# Altium integrated library Linear Technology PMIC-Switching Reg LTC1174-LTC3901.IntLib: 2647 symbols (part 161 of 310)
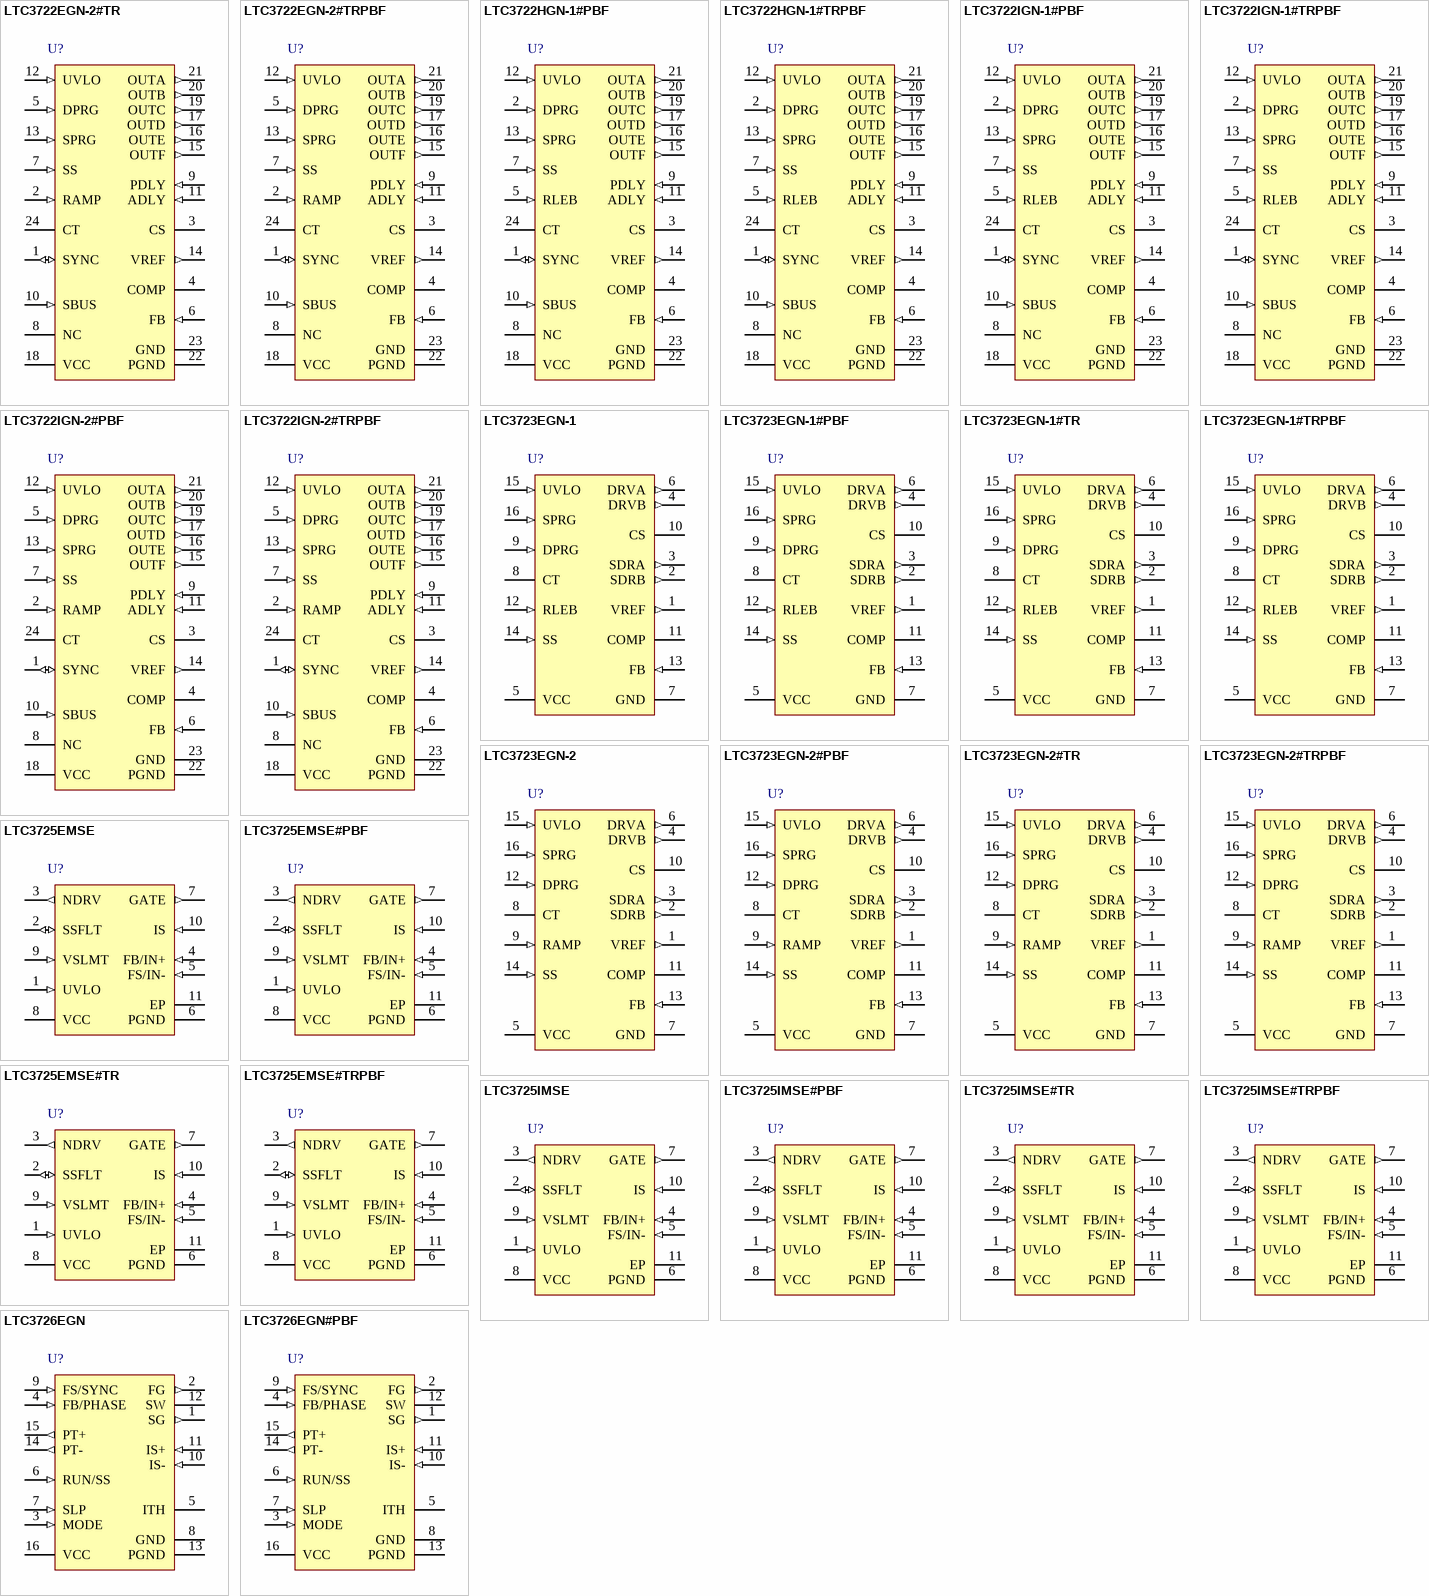
[diagram p208: symbols LTC3722EGN-2#TR to LTC3726EGN#PBF]

## LTC3722IGN-2#TRPBF
designator U?
Synchronous Dual Mode Phase Modulated Full Bridge Controller, Current Mode, 24-pin SOP (GN-24), -40 to 85 degC, Pb-Free, Tape and Reel; Manufacturer: Linear Technology; PartNumber: LTC3722IGN-2#TRPBF; Number of Outputs: 1; PackageReference: GN24; PackageDescription: 24-Pin Plastic SSOP , Body 8.5 x 3.9 mm, Pitch 0.635 mm; Supplier 1: Digi-Key; Supplier Part Number 1: LTC3722IGN-2#TRPBF-ND; RoHS: TRUE
footprint LT-GN-24_N (SOP, 24-Leads, Body 8.7x4mm, Pitch 0.635mm, IPC Medium Density)
footprint LT-GN-24_L (SOP, 24-Leads, Body 8.7x4mm, Pitch 0.635mm, IPC High Density)
footprint LT-GN-24_M (SOP, 24-Leads, Body 8.7x4mm, Pitch 0.635mm, IPC Low Density)
pins: 1 SYNC (io) "Synchronization Input/Output for the Oscillator. The input threshold for SYNC is approximately 1.9V, making it compatible with both CMOS and TTL logic. Terminate SYNC with a 5.1k resistor to GND.", 2 RAMP (in) "Input to Phase Modulator Comparator for LTC3722-2 only. The voltage on RAMP is internally level shifted by 650mV.", 3 CS "Input to Phase Modulator for the LTC3722-1. Input to pulse-by-pulse and overload current limit comparators, output of slope compensation circuitry. The pulse by pulse comparator has a nominal 300mV threshold, while the (See Datasheet)", 4 COMP "Error Amplifier Output, Inverting Input to Phase Modulator.", 5 DPRG (in) "Programming Input for Default Zero Voltage Transition (ZVS) Delay. Connect a resistor from DPRG to VREF to set the maximum turn on delay for outputs A, B, C, D. The nominal voltage on DPRG is 2V.", 6 FB (in) "Error Amplifier Inverting Input. This is the voltage feedback input for the LTC3722. The nominal regulation voltage at FB is 1.204V.", 7 SS (in) "Soft-Start/Restart Delay Circuitry Timing Capacitor. A capacitor from SS to GND provides a controlled ramp of the current command (LTC3722-1), or duty cycle (LTC3722-2). During overload conditions SS is discharged to ground (See Datasheet)", 8 NC "No Connection. Tie this pin to GND.", 9 PDLY (in) "Passive Leg Delay Circuit Input. PDLY is connected through a voltage divider to the left leg of the bridge in adaptive ZVS mode. In fixed ZVS mode, a voltage between 0V and 2.5V on PDLY, programs a fixed ZVS delay time for (See Datasheet)", 10 SBUS (in) "Line Voltage Sense Input. SBUS is connected to the main DC voltage feed by a resistive voltage divider when using adaptive ZVS control. The voltage divider is designed to produce 1.5V on SBUS at nominal VIN. If SBUS is tied (See Datasheet)", 11 ADLY (in) "Active Leg Delay Circuit Input. ADLY is connected through a voltage divider to the right leg of the bridge in adaptive ZVS mode. In fixed ZVS mode, a voltage between 0V and 2.5V on ADLY, programs a fixed ZVS delay time for (See Datasheet)", 12 UVLO (in) "Input to Program System Turn-On and Turn-Off Voltages. The nominal threshold of the UVLO comparator is 5V. UVLO is connected to the main DC system feed through a resistor divider. When the UVLO threshold is exceeded, the (See Datasheet)", 13 SPRG (in) "A resistor is connected between SPRG and GND to set the turn-off delay for the synchronous rectifier driver outputs (OUTE and OUTF). The nominal voltage on SPRG is 2V.", 14 VREF (out) "Output of the 5V Reference. VREF is capable of supplying up to 18mA to external circuitry. VREF should be decoupled to GND with a 1uF ceramic capacitor.", 15 OUTF (out) "50mA Driver for Synchronous Rectifier Associated with OUTB and OUTC.", 16 OUTE (out) "50mA Driver for Synchronous Rectifier Associated with OUTA and OUTD.", 17 OUTD (out) "50mA Driver for Low Side of the Full Bridge Active Leg.", 18 VCC (power) "Supply Voltage Input to the LTC3722-1/LTC3722-2 and 10.25V Shunt Regulator. The chip is enabled after VCC has risen high enough to allow the VCC shunt regulator to conduct current and the UVLO comparator threshold is (See Datasheet)", 19 OUTC (out) "50mA Driver for High Side of the Full Bridge Active Leg.", 20 OUTB (out) "50mA Driver for Low Side of the Full Bridge Passive Leg.", 21 OUTA (out) "50mA Driver for High Side of the Full Bridge Passive Leg.", 22 PGND (power) "Power Ground for the LTC3722. The output drivers of the LTC3722 are referenced to PGND. Connect the ceramic VCC bypass capacitor directly to PGND.", 23 GND (power) "All circuits other than the output drivers in the LTC3722 are referenced to GND. Use of a ground plane is recommended but not absolutely necessary.", 24 CT "Timing Capacitor for the Oscillator. Use a +/-5% or better low ESR ceramic capacitor for best results."

## LTC3723EGN-1
designator U?
Synchronous Push-Pull PWM Controller, Current Mode, 16-pin SOP (GN-16), -40 to 85 degC; Manufacturer: Linear Technology; PartNumber: LTC3723EGN-1; Number of Outputs: 1; PackageReference: GN-16; PackageDescription: 16-Pin Plastic SSOP, Body 4.9 x 3.9 mm, Pitch 0.635 mm; Supplier 1: Digi-Key; Supplier Part Number 1: LTC3723EGN-1-ND; RoHS: FALSE
footprint LT-GN-16_N (SOP, 16-Leads, Body 5x4mm, Pitch 0.635mm, IPC Medium Density)
footprint LT-GN-16_L (SOP, 16-Leads, Body 5x4mm, Pitch 0.635mm, IPC High Density)
footprint LT-GN-16_M (SOP, 16-Leads, Body 5x4mm, Pitch 0.635mm, IPC Low Density)
pins: 1 VREF (out) "Output of the 5.0V Reference. VREF is capable of supplying up to 18mA to external circuitry. VREF should be decoupled to GND with a 0.47uF ceramic capacitor.", 2 SDRB (out) "50mA Driver for Synchronous Rectifier associated with DRVB.", 3 SDRA (out) "50mA Driver for Synchronous Rectifier associated with DRVA.", 4 DRVB (out) "High Speed 1.5A Sink, 1A Source Totem Pole MOSFET Driver. Connect to gate of external push-pull MOSFET with as short a PCB trace as practical to preserve drive signal integrity. A low value resistor connected between DRVA (See Datasheet)", 5 VCC (power) "Supply Voltage Input to the LTC3723-1/LTC3723-2 and 10.25V Shunt Regulator. The chip is enabled after VCC has risen high enough to allow the VCC shunt regulator to conduct current and the UVLO comparator threshold is (See Datasheet)", 6 DRVA (out) "High Speed 1.5A Sink, 1A Source Totem Pole MOSFET Driver. Connect to gate of external push-pull MOSFET with as short a PCB trace as practical to preserve drive signal integrity. A low value resistor connected between DRVA (See Datasheet)", 7 GND (power) "All circuits in the LTC3723 are referenced to GND. Use of a ground plane is highly recom- mended. VIN and VREF bypass capacitors must be terminated with a star configuration as close to GND as practical for best performance.", 8 CT "Timing Capacitor for the Oscillator. Use a +/-5% or better low ESR ceramic capacitor for best results. CT ramp amplitude is 2.35V peak-to-peak (typical).", 9 DPRG (in) "Programming Input for Push-Pull Dead-Time. Connect a resistor between DPRG and VREF to program the dead-time. The nominal voltage on DPRG is 2V.", 10 CS "Input to Pulse-by-Pulse and Overload Current Limit Comparators, Output of Slope Compensation Circuitry. The pulse-by-pulse comparator has a nominal 300mV threshold, while the overload comparator has a nominal 600mV threshold.(See Datasheet)", 11 COMP "Error Amplifier Output, Inverting Input to Phase Modulator.", 12 RLEB (in) "Timing Resistor for Leading Edge Blanking. Use a 10k to 100k resistor connected between RLEB and GND to program from 40ns to 310ns of leading edge blanking of the current sense signal on CS for the LTC3723-1. A +/-1% (See Datasheet)", 13 FB (in) "Error Amplifier Inverting Input. This is the voltage feedback input for the LTC3723. The nominal regulation voltage at FB is 1.2V.", 14 SS (in) "Soft-Start/Restart Delay Circuitry Timing Capacitor. A capacitor from SS to GND provides a controlled ramp of the current command (LTC3723-1) or duty cycle (LTC3723-2). During overload conditions, SS is discharged to ground (See Datasheet)", 15 UVLO (in) "Input to Program System Turn-On and Turn-Off Voltages. The nominal threshold of the UVLO comparator is 5.0V. UVLO is connected to the main DC system feed through a resistor divider. When the UVLO threshold is exceeded, the (See Datasheet)", 16 SPRG (in) "A resistor is connected between SPRG and GND to set the turn off delay for the synchronous rectifier driver outputs. The nominal voltage on SPRG is 2V."

## LTC3723EGN-1#PBF
designator U?
Synchronous Push-Pull PWM Controller, Current Mode, 16-pin SOP (GN-16), -40 to 85 degC, Pb-Free; Manufacturer: Linear Technology; PartNumber: LTC3723EGN-1#PBF; Number of Outputs: 1; PackageReference: GN-16; PackageDescription: 16-Pin Plastic SSOP, Body 4.9 x 3.9 mm, Pitch 0.635 mm; Supplier 1: Digi-Key; Supplier Part Number 1: LTC3723EGN-1#PBF-ND; RoHS: TRUE
footprint LT-GN-16_N (SOP, 16-Leads, Body 5x4mm, Pitch 0.635mm, IPC Medium Density)
footprint LT-GN-16_L (SOP, 16-Leads, Body 5x4mm, Pitch 0.635mm, IPC High Density)
footprint LT-GN-16_M (SOP, 16-Leads, Body 5x4mm, Pitch 0.635mm, IPC Low Density)
pins: 1 VREF (out) "Output of the 5.0V Reference. VREF is capable of supplying up to 18mA to external circuitry. VREF should be decoupled to GND with a 0.47uF ceramic capacitor.", 2 SDRB (out) "50mA Driver for Synchronous Rectifier associated with DRVB.", 3 SDRA (out) "50mA Driver for Synchronous Rectifier associated with DRVA.", 4 DRVB (out) "High Speed 1.5A Sink, 1A Source Totem Pole MOSFET Driver. Connect to gate of external push-pull MOSFET with as short a PCB trace as practical to preserve drive signal integrity. A low value resistor connected between DRVA (See Datasheet)", 5 VCC (power) "Supply Voltage Input to the LTC3723-1/LTC3723-2 and 10.25V Shunt Regulator. The chip is enabled after VCC has risen high enough to allow the VCC shunt regulator to conduct current and the UVLO comparator threshold is (See Datasheet)", 6 DRVA (out) "High Speed 1.5A Sink, 1A Source Totem Pole MOSFET Driver. Connect to gate of external push-pull MOSFET with as short a PCB trace as practical to preserve drive signal integrity. A low value resistor connected between DRVA (See Datasheet)", 7 GND (power) "All circuits in the LTC3723 are referenced to GND. Use of a ground plane is highly recom- mended. VIN and VREF bypass capacitors must be terminated with a star configuration as close to GND as practical for best performance.", 8 CT "Timing Capacitor for the Oscillator. Use a +/-5% or better low ESR ceramic capacitor for best results. CT ramp amplitude is 2.35V peak-to-peak (typical).", 9 DPRG (in) "Programming Input for Push-Pull Dead-Time. Connect a resistor between DPRG and VREF to program the dead-time. The nominal voltage on DPRG is 2V.", 10 CS "Input to Pulse-by-Pulse and Overload Current Limit Comparators, Output of Slope Compensation Circuitry. The pulse-by-pulse comparator has a nominal 300mV threshold, while the overload comparator has a nominal 600mV threshold.(See Datasheet)", 11 COMP "Error Amplifier Output, Inverting Input to Phase Modulator.", 12 RLEB (in) "Timing Resistor for Leading Edge Blanking. Use a 10k to 100k resistor connected between RLEB and GND to program from 40ns to 310ns of leading edge blanking of the current sense signal on CS for the LTC3723-1. A +/-1% (See Datasheet)", 13 FB (in) "Error Amplifier Inverting Input. This is the voltage feedback input for the LTC3723. The nominal regulation voltage at FB is 1.2V.", 14 SS (in) "Soft-Start/Restart Delay Circuitry Timing Capacitor. A capacitor from SS to GND provides a controlled ramp of the current command (LTC3723-1) or duty cycle (LTC3723-2). During overload conditions, SS is discharged to ground (See Datasheet)", 15 UVLO (in) "Input to Program System Turn-On and Turn-Off Voltages. The nominal threshold of the UVLO comparator is 5.0V. UVLO is connected to the main DC system feed through a resistor divider. When the UVLO threshold is exceeded, the (See Datasheet)", 16 SPRG (in) "A resistor is connected between SPRG and GND to set the turn off delay for the synchronous rectifier driver outputs. The nominal voltage on SPRG is 2V."

## LTC3723EGN-1#TR
designator U?
Synchronous Push-Pull PWM Controller, Current Mode, 16-pin SOP (GN-16), -40 to 85 degC, Tape and Reel; Manufacturer: Linear Technology; PartNumber: LTC3723EGN-1#TR; Number of Outputs: 1; PackageReference: GN-16; PackageDescription: 16-Pin Plastic SSOP, Body 4.9 x 3.9 mm, Pitch 0.635 mm; Supplier 1: Digi-Key; Supplier Part Number 1: LTC3723EGN-1#TR-ND; RoHS: FALSE
footprint LT-GN-16_N (SOP, 16-Leads, Body 5x4mm, Pitch 0.635mm, IPC Medium Density)
footprint LT-GN-16_L (SOP, 16-Leads, Body 5x4mm, Pitch 0.635mm, IPC High Density)
footprint LT-GN-16_M (SOP, 16-Leads, Body 5x4mm, Pitch 0.635mm, IPC Low Density)
pins: 1 VREF (out) "Output of the 5.0V Reference. VREF is capable of supplying up to 18mA to external circuitry. VREF should be decoupled to GND with a 0.47uF ceramic capacitor.", 2 SDRB (out) "50mA Driver for Synchronous Rectifier associated with DRVB.", 3 SDRA (out) "50mA Driver for Synchronous Rectifier associated with DRVA.", 4 DRVB (out) "High Speed 1.5A Sink, 1A Source Totem Pole MOSFET Driver. Connect to gate of external push-pull MOSFET with as short a PCB trace as practical to preserve drive signal integrity. A low value resistor connected between DRVA (See Datasheet)", 5 VCC (power) "Supply Voltage Input to the LTC3723-1/LTC3723-2 and 10.25V Shunt Regulator. The chip is enabled after VCC has risen high enough to allow the VCC shunt regulator to conduct current and the UVLO comparator threshold is (See Datasheet)", 6 DRVA (out) "High Speed 1.5A Sink, 1A Source Totem Pole MOSFET Driver. Connect to gate of external push-pull MOSFET with as short a PCB trace as practical to preserve drive signal integrity. A low value resistor connected between DRVA (See Datasheet)", 7 GND (power) "All circuits in the LTC3723 are referenced to GND. Use of a ground plane is highly recom- mended. VIN and VREF bypass capacitors must be terminated with a star configuration as close to GND as practical for best performance.", 8 CT "Timing Capacitor for the Oscillator. Use a +/-5% or better low ESR ceramic capacitor for best results. CT ramp amplitude is 2.35V peak-to-peak (typical).", 9 DPRG (in) "Programming Input for Push-Pull Dead-Time. Connect a resistor between DPRG and VREF to program the dead-time. The nominal voltage on DPRG is 2V.", 10 CS "Input to Pulse-by-Pulse and Overload Current Limit Comparators, Output of Slope Compensation Circuitry. The pulse-by-pulse comparator has a nominal 300mV threshold, while the overload comparator has a nominal 600mV threshold.(See Datasheet)", 11 COMP "Error Amplifier Output, Inverting Input to Phase Modulator.", 12 RLEB (in) "Timing Resistor for Leading Edge Blanking. Use a 10k to 100k resistor connected between RLEB and GND to program from 40ns to 310ns of leading edge blanking of the current sense signal on CS for the LTC3723-1. A +/-1% (See Datasheet)", 13 FB (in) "Error Amplifier Inverting Input. This is the voltage feedback input for the LTC3723. The nominal regulation voltage at FB is 1.2V.", 14 SS (in) "Soft-Start/Restart Delay Circuitry Timing Capacitor. A capacitor from SS to GND provides a controlled ramp of the current command (LTC3723-1) or duty cycle (LTC3723-2). During overload conditions, SS is discharged to ground (See Datasheet)", 15 UVLO (in) "Input to Program System Turn-On and Turn-Off Voltages. The nominal threshold of the UVLO comparator is 5.0V. UVLO is connected to the main DC system feed through a resistor divider. When the UVLO threshold is exceeded, the (See Datasheet)", 16 SPRG (in) "A resistor is connected between SPRG and GND to set the turn off delay for the synchronous rectifier driver outputs. The nominal voltage on SPRG is 2V."

## LTC3723EGN-1#TRPBF
designator U?
Synchronous Push-Pull PWM Controller, Current Mode, 16-pin SOP (GN-16), -40 to 85 degC, Pb-Free, Tape and Reel; Manufacturer: Linear Technology; PartNumber: LTC3723EGN-1#TRPBF; Number of Outputs: 1; PackageReference: GN-16; PackageDescription: 16-Pin Plastic SSOP, Body 4.9 x 3.9 mm, Pitch 0.635 mm; Supplier 1: Digi-Key; Supplier Part Number 1: LTC3723EGN-1#TRPBF-ND; RoHS: TRUE
footprint LT-GN-16_N (SOP, 16-Leads, Body 5x4mm, Pitch 0.635mm, IPC Medium Density)
footprint LT-GN-16_L (SOP, 16-Leads, Body 5x4mm, Pitch 0.635mm, IPC High Density)
footprint LT-GN-16_M (SOP, 16-Leads, Body 5x4mm, Pitch 0.635mm, IPC Low Density)
pins: 1 VREF (out) "Output of the 5.0V Reference. VREF is capable of supplying up to 18mA to external circuitry. VREF should be decoupled to GND with a 0.47uF ceramic capacitor.", 2 SDRB (out) "50mA Driver for Synchronous Rectifier associated with DRVB.", 3 SDRA (out) "50mA Driver for Synchronous Rectifier associated with DRVA.", 4 DRVB (out) "High Speed 1.5A Sink, 1A Source Totem Pole MOSFET Driver. Connect to gate of external push-pull MOSFET with as short a PCB trace as practical to preserve drive signal integrity. A low value resistor connected between DRVA (See Datasheet)", 5 VCC (power) "Supply Voltage Input to the LTC3723-1/LTC3723-2 and 10.25V Shunt Regulator. The chip is enabled after VCC has risen high enough to allow the VCC shunt regulator to conduct current and the UVLO comparator threshold is (See Datasheet)", 6 DRVA (out) "High Speed 1.5A Sink, 1A Source Totem Pole MOSFET Driver. Connect to gate of external push-pull MOSFET with as short a PCB trace as practical to preserve drive signal integrity. A low value resistor connected between DRVA (See Datasheet)", 7 GND (power) "All circuits in the LTC3723 are referenced to GND. Use of a ground plane is highly recom- mended. VIN and VREF bypass capacitors must be terminated with a star configuration as close to GND as practical for best performance.", 8 CT "Timing Capacitor for the Oscillator. Use a +/-5% or better low ESR ceramic capacitor for best results. CT ramp amplitude is 2.35V peak-to-peak (typical).", 9 DPRG (in) "Programming Input for Push-Pull Dead-Time. Connect a resistor between DPRG and VREF to program the dead-time. The nominal voltage on DPRG is 2V.", 10 CS "Input to Pulse-by-Pulse and Overload Current Limit Comparators, Output of Slope Compensation Circuitry. The pulse-by-pulse comparator has a nominal 300mV threshold, while the overload comparator has a nominal 600mV threshold.(See Datasheet)", 11 COMP "Error Amplifier Output, Inverting Input to Phase Modulator.", 12 RLEB (in) "Timing Resistor for Leading Edge Blanking. Use a 10k to 100k resistor connected between RLEB and GND to program from 40ns to 310ns of leading edge blanking of the current sense signal on CS for the LTC3723-1. A +/-1% (See Datasheet)", 13 FB (in) "Error Amplifier Inverting Input. This is the voltage feedback input for the LTC3723. The nominal regulation voltage at FB is 1.2V.", 14 SS (in) "Soft-Start/Restart Delay Circuitry Timing Capacitor. A capacitor from SS to GND provides a controlled ramp of the current command (LTC3723-1) or duty cycle (LTC3723-2). During overload conditions, SS is discharged to ground (See Datasheet)", 15 UVLO (in) "Input to Program System Turn-On and Turn-Off Voltages. The nominal threshold of the UVLO comparator is 5.0V. UVLO is connected to the main DC system feed through a resistor divider. When the UVLO threshold is exceeded, the (See Datasheet)", 16 SPRG (in) "A resistor is connected between SPRG and GND to set the turn off delay for the synchronous rectifier driver outputs. The nominal voltage on SPRG is 2V."

## LTC3723EGN-2
designator U?
Synchronous Push-Pull PWM Controller, Voltage Mode, 16-pin SOP (GN-16), -40 to 85 degC; Manufacturer: Linear Technology; PartNumber: LTC3723EGN-2; Number of Outputs: 1; PackageReference: GN-16; PackageDescription: 16-Pin Plastic SSOP, Body 4.9 x 3.9 mm, Pitch 0.635 mm; Supplier 1: Digi-Key; Supplier Part Number 1: LTC3723EGN-2-ND; RoHS: FALSE
footprint LT-GN-16_N (SOP, 16-Leads, Body 5x4mm, Pitch 0.635mm, IPC Medium Density)
footprint LT-GN-16_L (SOP, 16-Leads, Body 5x4mm, Pitch 0.635mm, IPC High Density)
footprint LT-GN-16_M (SOP, 16-Leads, Body 5x4mm, Pitch 0.635mm, IPC Low Density)
pins: 1 VREF (out) "Output of the 5.0V Reference. VREF is capable of supplying up to 18mA to external circuitry. VREF should be decoupled to GND with a 0.47uF ceramic capacitor.", 2 SDRB (out) "50mA Driver for Synchronous Rectifier associated with DRVB.", 3 SDRA (out) "50mA Driver for Synchronous Rectifier associated with DRVA.", 4 DRVB (out) "High Speed 1.5A Sink, 1A Source Totem Pole MOSFET Driver. Connect to gate of external push-pull MOSFET with as short a PCB trace as practical to preserve drive signal integrity. A low value resistor connected between DRVA (See Datasheet)", 5 VCC (power) "Supply Voltage Input to the LTC3723-1/LTC3723-2 and 10.25V Shunt Regulator. The chip is enabled after VCC has risen high enough to allow the VCC shunt regulator to conduct current and the UVLO comparator threshold is (See Datasheet)", 6 DRVA (out) "High Speed 1.5A Sink, 1A Source Totem Pole MOSFET Driver. Connect to gate of external push-pull MOSFET with as short a PCB trace as practical to preserve drive signal integrity. A low value resistor connected between DRVA (See Datasheet)", 7 GND (power) "All circuits in the LTC3723 are referenced to GND. Use of a ground plane is highly recom- mended. VIN and VREF bypass capacitors must be terminated with a star configuration as close to GND as practical for best performance.", 8 CT "Timing Capacitor for the Oscillator. Use a +/-5% or better low ESR ceramic capacitor for best results. CT ramp amplitude is 2.35V peak-to-peak (typical).", 9 RAMP (in) "Input to PWM Comparator for LTC3723-2 Only (Voltage Mode Controller). The voltage on RAMP is internally level shifted by 650mV.", 10 CS "Input to Pulse-by-Pulse and Overload Current Limit Comparators, Output of Slope Compensation Circuitry. The pulse-by-pulse comparator has a nominal 300mV threshold, while the overload comparator has a nominal 600mV threshold.(See Datasheet)", 11 COMP "Error Amplifier Output, Inverting Input to Phase Modulator.", 12 DPRG (in) "Programming Input for Push-Pull Dead-Time. Connect a resistor between DPRG and VREF to program the dead-time. The nominal voltage on DPRG is 2V.", 13 FB (in) "Error Amplifier Inverting Input. This is the voltage feedback input for the LTC3723. The nominal regulation voltage at FB is 1.2V.", 14 SS (in) "Soft-Start/Restart Delay Circuitry Timing Capacitor. A capacitor from SS to GND provides a controlled ramp of the current command (LTC3723-1) or duty cycle (LTC3723-2). During overload conditions, SS is discharged to ground (See Datasheet)", 15 UVLO (in) "Input to Program System Turn-On and Turn-Off Voltages. The nominal threshold of the UVLO comparator is 5.0V. UVLO is connected to the main DC system feed through a resistor divider. When the UVLO threshold is exceeded, the (See Datasheet)", 16 SPRG (in) "A resistor is connected between SPRG and GND to set the turn off delay for the synchronous rectifier driver outputs. The nominal voltage on SPRG is 2V."

## LTC3723EGN-2#PBF
designator U?
Synchronous Push-Pull PWM Controller, Voltage Mode, 16-pin SOP (GN-16), -40 to 85 degC, Pb-Free; Manufacturer: Linear Technology; PartNumber: LTC3723EGN-2#PBF; Number of Outputs: 1; PackageReference: GN-16; PackageDescription: 16-Pin Plastic SSOP, Body 4.9 x 3.9 mm, Pitch 0.635 mm; Supplier 1: Digi-Key; Supplier Part Number 1: LTC3723EGN-2#PBF-ND; RoHS: TRUE
footprint LT-GN-16_N (SOP, 16-Leads, Body 5x4mm, Pitch 0.635mm, IPC Medium Density)
footprint LT-GN-16_L (SOP, 16-Leads, Body 5x4mm, Pitch 0.635mm, IPC High Density)
footprint LT-GN-16_M (SOP, 16-Leads, Body 5x4mm, Pitch 0.635mm, IPC Low Density)
pins: 1 VREF (out) "Output of the 5.0V Reference. VREF is capable of supplying up to 18mA to external circuitry. VREF should be decoupled to GND with a 0.47uF ceramic capacitor.", 2 SDRB (out) "50mA Driver for Synchronous Rectifier associated with DRVB.", 3 SDRA (out) "50mA Driver for Synchronous Rectifier associated with DRVA.", 4 DRVB (out) "High Speed 1.5A Sink, 1A Source Totem Pole MOSFET Driver. Connect to gate of external push-pull MOSFET with as short a PCB trace as practical to preserve drive signal integrity. A low value resistor connected between DRVA (See Datasheet)", 5 VCC (power) "Supply Voltage Input to the LTC3723-1/LTC3723-2 and 10.25V Shunt Regulator. The chip is enabled after VCC has risen high enough to allow the VCC shunt regulator to conduct current and the UVLO comparator threshold is (See Datasheet)", 6 DRVA (out) "High Speed 1.5A Sink, 1A Source Totem Pole MOSFET Driver. Connect to gate of external push-pull MOSFET with as short a PCB trace as practical to preserve drive signal integrity. A low value resistor connected between DRVA (See Datasheet)", 7 GND (power) "All circuits in the LTC3723 are referenced to GND. Use of a ground plane is highly recom- mended. VIN and VREF bypass capacitors must be terminated with a star configuration as close to GND as practical for best performance.", 8 CT "Timing Capacitor for the Oscillator. Use a +/-5% or better low ESR ceramic capacitor for best results. CT ramp amplitude is 2.35V peak-to-peak (typical).", 9 RAMP (in) "Input to PWM Comparator for LTC3723-2 Only (Voltage Mode Controller). The voltage on RAMP is internally level shifted by 650mV.", 10 CS "Input to Pulse-by-Pulse and Overload Current Limit Comparators, Output of Slope Compensation Circuitry. The pulse-by-pulse comparator has a nominal 300mV threshold, while the overload comparator has a nominal 600mV threshold.(See Datasheet)", 11 COMP "Error Amplifier Output, Inverting Input to Phase Modulator.", 12 DPRG (in) "Programming Input for Push-Pull Dead-Time. Connect a resistor between DPRG and VREF to program the dead-time. The nominal voltage on DPRG is 2V.", 13 FB (in) "Error Amplifier Inverting Input. This is the voltage feedback input for the LTC3723. The nominal regulation voltage at FB is 1.2V.", 14 SS (in) "Soft-Start/Restart Delay Circuitry Timing Capacitor. A capacitor from SS to GND provides a controlled ramp of the current command (LTC3723-1) or duty cycle (LTC3723-2). During overload conditions, SS is discharged to ground (See Datasheet)", 15 UVLO (in) "Input to Program System Turn-On and Turn-Off Voltages. The nominal threshold of the UVLO comparator is 5.0V. UVLO is connected to the main DC system feed through a resistor divider. When the UVLO threshold is exceeded, the (See Datasheet)", 16 SPRG (in) "A resistor is connected between SPRG and GND to set the turn off delay for the synchronous rectifier driver outputs. The nominal voltage on SPRG is 2V."

## LTC3723EGN-2#TR
designator U?
Synchronous Push-Pull PWM Controller, Voltage Mode, 16-pin SOP (GN-16), -40 to 85 degC, Tape and Reel; Manufacturer: Linear Technology; PartNumber: LTC3723EGN-2#TR; Number of Outputs: 1; PackageReference: GN-16; PackageDescription: 16-Pin Plastic SSOP, Body 4.9 x 3.9 mm, Pitch 0.635 mm; Supplier 1: Digi-Key; Supplier Part Number 1: LTC3723EGN-2#TR-ND; RoHS: FALSE
footprint LT-GN-16_N (SOP, 16-Leads, Body 5x4mm, Pitch 0.635mm, IPC Medium Density)
footprint LT-GN-16_L (SOP, 16-Leads, Body 5x4mm, Pitch 0.635mm, IPC High Density)
footprint LT-GN-16_M (SOP, 16-Leads, Body 5x4mm, Pitch 0.635mm, IPC Low Density)
pins: 1 VREF (out) "Output of the 5.0V Reference. VREF is capable of supplying up to 18mA to external circuitry. VREF should be decoupled to GND with a 0.47uF ceramic capacitor.", 2 SDRB (out) "50mA Driver for Synchronous Rectifier associated with DRVB.", 3 SDRA (out) "50mA Driver for Synchronous Rectifier associated with DRVA.", 4 DRVB (out) "High Speed 1.5A Sink, 1A Source Totem Pole MOSFET Driver. Connect to gate of external push-pull MOSFET with as short a PCB trace as practical to preserve drive signal integrity. A low value resistor connected between DRVA (See Datasheet)", 5 VCC (power) "Supply Voltage Input to the LTC3723-1/LTC3723-2 and 10.25V Shunt Regulator. The chip is enabled after VCC has risen high enough to allow the VCC shunt regulator to conduct current and the UVLO comparator threshold is (See Datasheet)", 6 DRVA (out) "High Speed 1.5A Sink, 1A Source Totem Pole MOSFET Driver. Connect to gate of external push-pull MOSFET with as short a PCB trace as practical to preserve drive signal integrity. A low value resistor connected between DRVA (See Datasheet)", 7 GND (power) "All circuits in the LTC3723 are referenced to GND. Use of a ground plane is highly recom- mended. VIN and VREF bypass capacitors must be terminated with a star configuration as close to GND as practical for best performance.", 8 CT "Timing Capacitor for the Oscillator. Use a +/-5% or better low ESR ceramic capacitor for best results. CT ramp amplitude is 2.35V peak-to-peak (typical).", 9 RAMP (in) "Input to PWM Comparator for LTC3723-2 Only (Voltage Mode Controller). The voltage on RAMP is internally level shifted by 650mV.", 10 CS "Input to Pulse-by-Pulse and Overload Current Limit Comparators, Output of Slope Compensation Circuitry. The pulse-by-pulse comparator has a nominal 300mV threshold, while the overload comparator has a nominal 600mV threshold.(See Datasheet)", 11 COMP "Error Amplifier Output, Inverting Input to Phase Modulator.", 12 DPRG (in) "Programming Input for Push-Pull Dead-Time. Connect a resistor between DPRG and VREF to program the dead-time. The nominal voltage on DPRG is 2V.", 13 FB (in) "Error Amplifier Inverting Input. This is the voltage feedback input for the LTC3723. The nominal regulation voltage at FB is 1.2V.", 14 SS (in) "Soft-Start/Restart Delay Circuitry Timing Capacitor. A capacitor from SS to GND provides a controlled ramp of the current command (LTC3723-1) or duty cycle (LTC3723-2). During overload conditions, SS is discharged to ground (See Datasheet)", 15 UVLO (in) "Input to Program System Turn-On and Turn-Off Voltages. The nominal threshold of the UVLO comparator is 5.0V. UVLO is connected to the main DC system feed through a resistor divider. When the UVLO threshold is exceeded, the (See Datasheet)", 16 SPRG (in) "A resistor is connected between SPRG and GND to set the turn off delay for the synchronous rectifier driver outputs. The nominal voltage on SPRG is 2V."

## LTC3723EGN-2#TRPBF
designator U?
Synchronous Push-Pull PWM Controller, Voltage Mode, 16-pin SOP (GN-16), -40 to 85 degC, Pb-Free, Tape and Reel; Manufacturer: Linear Technology; PartNumber: LTC3723EGN-2#TRPBF; Number of Outputs: 1; PackageReference: GN-16; PackageDescription: 16-Pin Plastic SSOP, Body 4.9 x 3.9 mm, Pitch 0.635 mm; Supplier 1: Digi-Key; Supplier Part Number 1: LTC3723EGN-2#TRPBF-ND; RoHS: TRUE
footprint LT-GN-16_N (SOP, 16-Leads, Body 5x4mm, Pitch 0.635mm, IPC Medium Density)
footprint LT-GN-16_L (SOP, 16-Leads, Body 5x4mm, Pitch 0.635mm, IPC High Density)
footprint LT-GN-16_M (SOP, 16-Leads, Body 5x4mm, Pitch 0.635mm, IPC Low Density)
pins: 1 VREF (out) "Output of the 5.0V Reference. VREF is capable of supplying up to 18mA to external circuitry. VREF should be decoupled to GND with a 0.47uF ceramic capacitor.", 2 SDRB (out) "50mA Driver for Synchronous Rectifier associated with DRVB.", 3 SDRA (out) "50mA Driver for Synchronous Rectifier associated with DRVA.", 4 DRVB (out) "High Speed 1.5A Sink, 1A Source Totem Pole MOSFET Driver. Connect to gate of external push-pull MOSFET with as short a PCB trace as practical to preserve drive signal integrity. A low value resistor connected between DRVA (See Datasheet)", 5 VCC (power) "Supply Voltage Input to the LTC3723-1/LTC3723-2 and 10.25V Shunt Regulator. The chip is enabled after VCC has risen high enough to allow the VCC shunt regulator to conduct current and the UVLO comparator threshold is (See Datasheet)", 6 DRVA (out) "High Speed 1.5A Sink, 1A Source Totem Pole MOSFET Driver. Connect to gate of external push-pull MOSFET with as short a PCB trace as practical to preserve drive signal integrity. A low value resistor connected between DRVA (See Datasheet)", 7 GND (power) "All circuits in the LTC3723 are referenced to GND. Use of a ground plane is highly recom- mended. VIN and VREF bypass capacitors must be terminated with a star configuration as close to GND as practical for best performance.", 8 CT "Timing Capacitor for the Oscillator. Use a +/-5% or better low ESR ceramic capacitor for best results. CT ramp amplitude is 2.35V peak-to-peak (typical).", 9 RAMP (in) "Input to PWM Comparator for LTC3723-2 Only (Voltage Mode Controller). The voltage on RAMP is internally level shifted by 650mV.", 10 CS "Input to Pulse-by-Pulse and Overload Current Limit Comparators, Output of Slope Compensation Circuitry. The pulse-by-pulse comparator has a nominal 300mV threshold, while the overload comparator has a nominal 600mV threshold.(See Datasheet)", 11 COMP "Error Amplifier Output, Inverting Input to Phase Modulator.", 12 DPRG (in) "Programming Input for Push-Pull Dead-Time. Connect a resistor between DPRG and VREF to program the dead-time. The nominal voltage on DPRG is 2V.", 13 FB (in) "Error Amplifier Inverting Input. This is the voltage feedback input for the LTC3723. The nominal regulation voltage at FB is 1.2V.", 14 SS (in) "Soft-Start/Restart Delay Circuitry Timing Capacitor. A capacitor from SS to GND provides a controlled ramp of the current command (LTC3723-1) or duty cycle (LTC3723-2). During overload conditions, SS is discharged to ground (See Datasheet)", 15 UVLO (in) "Input to Program System Turn-On and Turn-Off Voltages. The nominal threshold of the UVLO comparator is 5.0V. UVLO is connected to the main DC system feed through a resistor divider. When the UVLO threshold is exceeded, the (See Datasheet)", 16 SPRG (in) "A resistor is connected between SPRG and GND to set the turn off delay for the synchronous rectifier driver outputs. The nominal voltage on SPRG is 2V."

## LTC3725EMSE
designator U?
Single-Switch Forward Controller and Gate Driver, 10-pin SOP (MSE-10-EDP), -40 to 85 degC; Manufacturer: Linear Technology; PartNumber: LTC3725EMSE; Number of Outputs: 1; PackageReference: MSE-10; PackageDescription: 10-Pin Plastic MSOP, Exposed Die Pad, Body 3 x 3 mm, Pitch 0.5 mm; RoHS: FALSE
footprint LT-MSE-10-EDP-2060x1830TP_N (SOP, 10-Leads, Body 3.1x3.1mm, Pitch 0.5mm, Thermal Pad 2.17x1.94mm, IPC Medium Density)
footprint LT-MSE-10-EDP-2060x1830TP_L (SOP, 10-Leads, Body 3.1x3.1mm, Pitch 0.5mm, Thermal Pad 2.17x1.94mm, IPC High Density)
footprint LT-MSE-10-EDP-2060x1830TP_M (SOP, 10-Leads, Body 3.1x3.1mm, Pitch 0.5mm, Thermal Pad 2.17x1.94mm, IPC Low Density)
pins: 1 UVLO (in) "Undervoltage Lockout. Connect to a resistive voltage divider to monitor input voltage VIN. Enables converter operation for VUVLO > 1.242V. Hysteresis is a fixed 16mV hysteresis voltage with a 4.9uA hysteresis current that (See Datasheet)", 2 SSFLT (io) "Combination Soft-Start and Fault Indicator. A capacitor to GND sets the duty cycle ramp-up rate during start-up. To indicate a fault, the SSFLT pin is momentarily pulled up to within 1.3V of VCC.", 3 NDRV (out) "Drive for the External NMOS Linear Regulator. Connect to the gate of the NMOS and connect a pull up resistor to the input voltage (VIN). Optionally, to create a trickle charger omit the NMOS device and connect NDRV to VCC.", 4 FB/IN+ (in) "This pin has several functions. One winding of a pulse transformer is connected to the FB/IN+ and FS/IN- pins. The other pulse transformer winding is connected to the LTC3706. The LTC3725 automatically detects when the (See Datasheet)", 5 FS/IN- (in) "This pin has several functions. Place a resistor from this pin to GND to set the oscillator frequency. For secondary-side control with the LTC3706, connect one winding of the pulse transformer for operation as described for (See Datasheet)", 6 PGND (power) "Supply Return for the Bottom Gate Driver and the On-Chip Bridge Rectifier.", 7 GATE (out) "Gate Drive. Connect to the gate of the external MOSFET.", 8 VCC (power) "Main VCC Power for All Driver and Control Circuitry.", 9 VSLMT (in) "Volt-Second Limit. Form an R-C integrator by connecting a resistor from VIN to VSLMT and a capacitor from VSLMT to ground. The gate drive is turned off when the voltage on the VSLMT pin exceeds 1.26V.", 10 IS (in) "Input to the Overcurrent Comparator. Connect to the positive terminal of a current-sense resistor in series with the source of the ground-referenced bottom MOSFET.", 11 EP (power) "Signal Ground."

## LTC3725EMSE#PBF
designator U?
Single-Switch Forward Controller and Gate Driver, 10-pin SOP (MSE-10-EDP), -40 to 85 degC, Pb-Free; Manufacturer: Linear Technology; PartNumber: LTC3725EMSE#PBF; Number of Outputs: 1; PackageReference: MSE-10; PackageDescription: 10-Pin Plastic MSOP, Exposed Die Pad, Body 3 x 3 mm, Pitch 0.5 mm; Supplier 1: Digi-Key; Supplier Part Number 1: LTC3725EMSE#PBF-ND; RoHS: TRUE
footprint LT-MSE-10-EDP-2060x1830TP_N (SOP, 10-Leads, Body 3.1x3.1mm, Pitch 0.5mm, Thermal Pad 2.17x1.94mm, IPC Medium Density)
footprint LT-MSE-10-EDP-2060x1830TP_L (SOP, 10-Leads, Body 3.1x3.1mm, Pitch 0.5mm, Thermal Pad 2.17x1.94mm, IPC High Density)
footprint LT-MSE-10-EDP-2060x1830TP_M (SOP, 10-Leads, Body 3.1x3.1mm, Pitch 0.5mm, Thermal Pad 2.17x1.94mm, IPC Low Density)
pins: 1 UVLO (in) "Undervoltage Lockout. Connect to a resistive voltage divider to monitor input voltage VIN. Enables converter operation for VUVLO > 1.242V. Hysteresis is a fixed 16mV hysteresis voltage with a 4.9uA hysteresis current that (See Datasheet)", 2 SSFLT (io) "Combination Soft-Start and Fault Indicator. A capacitor to GND sets the duty cycle ramp-up rate during start-up. To indicate a fault, the SSFLT pin is momentarily pulled up to within 1.3V of VCC.", 3 NDRV (out) "Drive for the External NMOS Linear Regulator. Connect to the gate of the NMOS and connect a pull up resistor to the input voltage (VIN). Optionally, to create a trickle charger omit the NMOS device and connect NDRV to VCC.", 4 FB/IN+ (in) "This pin has several functions. One winding of a pulse transformer is connected to the FB/IN+ and FS/IN- pins. The other pulse transformer winding is connected to the LTC3706. The LTC3725 automatically detects when the (See Datasheet)", 5 FS/IN- (in) "This pin has several functions. Place a resistor from this pin to GND to set the oscillator frequency. For secondary-side control with the LTC3706, connect one winding of the pulse transformer for operation as described for (See Datasheet)", 6 PGND (power) "Supply Return for the Bottom Gate Driver and the On-Chip Bridge Rectifier.", 7 GATE (out) "Gate Drive. Connect to the gate of the external MOSFET.", 8 VCC (power) "Main VCC Power for All Driver and Control Circuitry.", 9 VSLMT (in) "Volt-Second Limit. Form an R-C integrator by connecting a resistor from VIN to VSLMT and a capacitor from VSLMT to ground. The gate drive is turned off when the voltage on the VSLMT pin exceeds 1.26V.", 10 IS (in) "Input to the Overcurrent Comparator. Connect to the positive terminal of a current-sense resistor in series with the source of the ground-referenced bottom MOSFET.", 11 EP (power) "Signal Ground."

## LTC3725EMSE#TR
designator U?
Single-Switch Forward Controller and Gate Driver, 10-pin SOP (MSE-10-EDP), -40 to 85 degC, Tape and Reel; Manufacturer: Linear Technology; PartNumber: LTC3725EMSE#TR; Number of Outputs: 1; PackageReference: MSE-10; PackageDescription: 10-Pin Plastic MSOP, Exposed Die Pad, Body 3 x 3 mm, Pitch 0.5 mm; RoHS: FALSE
footprint LT-MSE-10-EDP-2060x1830TP_N (SOP, 10-Leads, Body 3.1x3.1mm, Pitch 0.5mm, Thermal Pad 2.17x1.94mm, IPC Medium Density)
footprint LT-MSE-10-EDP-2060x1830TP_L (SOP, 10-Leads, Body 3.1x3.1mm, Pitch 0.5mm, Thermal Pad 2.17x1.94mm, IPC High Density)
footprint LT-MSE-10-EDP-2060x1830TP_M (SOP, 10-Leads, Body 3.1x3.1mm, Pitch 0.5mm, Thermal Pad 2.17x1.94mm, IPC Low Density)
pins: 1 UVLO (in) "Undervoltage Lockout. Connect to a resistive voltage divider to monitor input voltage VIN. Enables converter operation for VUVLO > 1.242V. Hysteresis is a fixed 16mV hysteresis voltage with a 4.9uA hysteresis current that (See Datasheet)", 2 SSFLT (io) "Combination Soft-Start and Fault Indicator. A capacitor to GND sets the duty cycle ramp-up rate during start-up. To indicate a fault, the SSFLT pin is momentarily pulled up to within 1.3V of VCC.", 3 NDRV (out) "Drive for the External NMOS Linear Regulator. Connect to the gate of the NMOS and connect a pull up resistor to the input voltage (VIN). Optionally, to create a trickle charger omit the NMOS device and connect NDRV to VCC.", 4 FB/IN+ (in) "This pin has several functions. One winding of a pulse transformer is connected to the FB/IN+ and FS/IN- pins. The other pulse transformer winding is connected to the LTC3706. The LTC3725 automatically detects when the (See Datasheet)", 5 FS/IN- (in) "This pin has several functions. Place a resistor from this pin to GND to set the oscillator frequency. For secondary-side control with the LTC3706, connect one winding of the pulse transformer for operation as described for (See Datasheet)", 6 PGND (power) "Supply Return for the Bottom Gate Driver and the On-Chip Bridge Rectifier.", 7 GATE (out) "Gate Drive. Connect to the gate of the external MOSFET.", 8 VCC (power) "Main VCC Power for All Driver and Control Circuitry.", 9 VSLMT (in) "Volt-Second Limit. Form an R-C integrator by connecting a resistor from VIN to VSLMT and a capacitor from VSLMT to ground. The gate drive is turned off when the voltage on the VSLMT pin exceeds 1.26V.", 10 IS (in) "Input to the Overcurrent Comparator. Connect to the positive terminal of a current-sense resistor in series with the source of the ground-referenced bottom MOSFET.", 11 EP (power) "Signal Ground."

## LTC3725EMSE#TRPBF
designator U?
Single-Switch Forward Controller and Gate Driver, 10-pin SOP (MSE-10-EDP), -40 to 85 degC, Pb-Free, Tape and Reel; Manufacturer: Linear Technology; PartNumber: LTC3725EMSE#TRPBF; Number of Outputs: 1; PackageReference: MSE-10; PackageDescription: 10-Pin Plastic MSOP, Exposed Die Pad, Body 3 x 3 mm, Pitch 0.5 mm; Supplier 1: Digi-Key; Supplier Part Number 1: LTC3725EMSE#TRPBF-ND; RoHS: TRUE
footprint LT-MSE-10-EDP-2060x1830TP_N (SOP, 10-Leads, Body 3.1x3.1mm, Pitch 0.5mm, Thermal Pad 2.17x1.94mm, IPC Medium Density)
footprint LT-MSE-10-EDP-2060x1830TP_L (SOP, 10-Leads, Body 3.1x3.1mm, Pitch 0.5mm, Thermal Pad 2.17x1.94mm, IPC High Density)
footprint LT-MSE-10-EDP-2060x1830TP_M (SOP, 10-Leads, Body 3.1x3.1mm, Pitch 0.5mm, Thermal Pad 2.17x1.94mm, IPC Low Density)
pins: 1 UVLO (in) "Undervoltage Lockout. Connect to a resistive voltage divider to monitor input voltage VIN. Enables converter operation for VUVLO > 1.242V. Hysteresis is a fixed 16mV hysteresis voltage with a 4.9uA hysteresis current that (See Datasheet)", 2 SSFLT (io) "Combination Soft-Start and Fault Indicator. A capacitor to GND sets the duty cycle ramp-up rate during start-up. To indicate a fault, the SSFLT pin is momentarily pulled up to within 1.3V of VCC.", 3 NDRV (out) "Drive for the External NMOS Linear Regulator. Connect to the gate of the NMOS and connect a pull up resistor to the input voltage (VIN). Optionally, to create a trickle charger omit the NMOS device and connect NDRV to VCC.", 4 FB/IN+ (in) "This pin has several functions. One winding of a pulse transformer is connected to the FB/IN+ and FS/IN- pins. The other pulse transformer winding is connected to the LTC3706. The LTC3725 automatically detects when the (See Datasheet)", 5 FS/IN- (in) "This pin has several functions. Place a resistor from this pin to GND to set the oscillator frequency. For secondary-side control with the LTC3706, connect one winding of the pulse transformer for operation as described for (See Datasheet)", 6 PGND (power) "Supply Return for the Bottom Gate Driver and the On-Chip Bridge Rectifier.", 7 GATE (out) "Gate Drive. Connect to the gate of the external MOSFET.", 8 VCC (power) "Main VCC Power for All Driver and Control Circuitry.", 9 VSLMT (in) "Volt-Second Limit. Form an R-C integrator by connecting a resistor from VIN to VSLMT and a capacitor from VSLMT to ground. The gate drive is turned off when the voltage on the VSLMT pin exceeds 1.26V.", 10 IS (in) "Input to the Overcurrent Comparator. Connect to the positive terminal of a current-sense resistor in series with the source of the ground-referenced bottom MOSFET.", 11 EP (power) "Signal Ground."

## LTC3725IMSE
designator U?
Single-Switch Forward Controller and Gate Driver, 10-pin SOP (MSE-10-EDP), -40 to 85 degC; Manufacturer: Linear Technology; PartNumber: LTC3725IMSE; Number of Outputs: 1; PackageReference: MSE-10; PackageDescription: 10-Pin Plastic MSOP, Exposed Die Pad, Body 3 x 3 mm, Pitch 0.5 mm; RoHS: FALSE
footprint LT-MSE-10-EDP-2060x1830TP_N (SOP, 10-Leads, Body 3.1x3.1mm, Pitch 0.5mm, Thermal Pad 2.17x1.94mm, IPC Medium Density)
footprint LT-MSE-10-EDP-2060x1830TP_L (SOP, 10-Leads, Body 3.1x3.1mm, Pitch 0.5mm, Thermal Pad 2.17x1.94mm, IPC High Density)
footprint LT-MSE-10-EDP-2060x1830TP_M (SOP, 10-Leads, Body 3.1x3.1mm, Pitch 0.5mm, Thermal Pad 2.17x1.94mm, IPC Low Density)
pins: 1 UVLO (in) "Undervoltage Lockout. Connect to a resistive voltage divider to monitor input voltage VIN. Enables converter operation for VUVLO > 1.242V. Hysteresis is a fixed 16mV hysteresis voltage with a 4.9uA hysteresis current that (See Datasheet)", 2 SSFLT (io) "Combination Soft-Start and Fault Indicator. A capacitor to GND sets the duty cycle ramp-up rate during start-up. To indicate a fault, the SSFLT pin is momentarily pulled up to within 1.3V of VCC.", 3 NDRV (out) "Drive for the External NMOS Linear Regulator. Connect to the gate of the NMOS and connect a pull up resistor to the input voltage (VIN). Optionally, to create a trickle charger omit the NMOS device and connect NDRV to VCC.", 4 FB/IN+ (in) "This pin has several functions. One winding of a pulse transformer is connected to the FB/IN+ and FS/IN- pins. The other pulse transformer winding is connected to the LTC3706. The LTC3725 automatically detects when the (See Datasheet)", 5 FS/IN- (in) "This pin has several functions. Place a resistor from this pin to GND to set the oscillator frequency. For secondary-side control with the LTC3706, connect one winding of the pulse transformer for operation as described for (See Datasheet)", 6 PGND (power) "Supply Return for the Bottom Gate Driver and the On-Chip Bridge Rectifier.", 7 GATE (out) "Gate Drive. Connect to the gate of the external MOSFET.", 8 VCC (power) "Main VCC Power for All Driver and Control Circuitry.", 9 VSLMT (in) "Volt-Second Limit. Form an R-C integrator by connecting a resistor from VIN to VSLMT and a capacitor from VSLMT to ground. The gate drive is turned off when the voltage on the VSLMT pin exceeds 1.26V.", 10 IS (in) "Input to the Overcurrent Comparator. Connect to the positive terminal of a current-sense resistor in series with the source of the ground-referenced bottom MOSFET.", 11 EP (power) "Signal Ground."

## LTC3725IMSE#PBF
designator U?
Single-Switch Forward Controller and Gate Driver, 10-pin SOP (MSE-10-EDP), -40 to 85 degC, Pb-Free; Manufacturer: Linear Technology; PartNumber: LTC3725IMSE#PBF; Number of Outputs: 1; PackageReference: MSE-10; PackageDescription: 10-Pin Plastic MSOP, Exposed Die Pad, Body 3 x 3 mm, Pitch 0.5 mm; Supplier 1: Digi-Key; Supplier Part Number 1: LTC3725IMSE#PBF-ND; RoHS: TRUE
footprint LT-MSE-10-EDP-2060x1830TP_N (SOP, 10-Leads, Body 3.1x3.1mm, Pitch 0.5mm, Thermal Pad 2.17x1.94mm, IPC Medium Density)
footprint LT-MSE-10-EDP-2060x1830TP_L (SOP, 10-Leads, Body 3.1x3.1mm, Pitch 0.5mm, Thermal Pad 2.17x1.94mm, IPC High Density)
footprint LT-MSE-10-EDP-2060x1830TP_M (SOP, 10-Leads, Body 3.1x3.1mm, Pitch 0.5mm, Thermal Pad 2.17x1.94mm, IPC Low Density)
pins: 1 UVLO (in) "Undervoltage Lockout. Connect to a resistive voltage divider to monitor input voltage VIN. Enables converter operation for VUVLO > 1.242V. Hysteresis is a fixed 16mV hysteresis voltage with a 4.9uA hysteresis current that (See Datasheet)", 2 SSFLT (io) "Combination Soft-Start and Fault Indicator. A capacitor to GND sets the duty cycle ramp-up rate during start-up. To indicate a fault, the SSFLT pin is momentarily pulled up to within 1.3V of VCC.", 3 NDRV (out) "Drive for the External NMOS Linear Regulator. Connect to the gate of the NMOS and connect a pull up resistor to the input voltage (VIN). Optionally, to create a trickle charger omit the NMOS device and connect NDRV to VCC.", 4 FB/IN+ (in) "This pin has several functions. One winding of a pulse transformer is connected to the FB/IN+ and FS/IN- pins. The other pulse transformer winding is connected to the LTC3706. The LTC3725 automatically detects when the (See Datasheet)", 5 FS/IN- (in) "This pin has several functions. Place a resistor from this pin to GND to set the oscillator frequency. For secondary-side control with the LTC3706, connect one winding of the pulse transformer for operation as described for (See Datasheet)", 6 PGND (power) "Supply Return for the Bottom Gate Driver and the On-Chip Bridge Rectifier.", 7 GATE (out) "Gate Drive. Connect to the gate of the external MOSFET.", 8 VCC (power) "Main VCC Power for All Driver and Control Circuitry.", 9 VSLMT (in) "Volt-Second Limit. Form an R-C integrator by connecting a resistor from VIN to VSLMT and a capacitor from VSLMT to ground. The gate drive is turned off when the voltage on the VSLMT pin exceeds 1.26V.", 10 IS (in) "Input to the Overcurrent Comparator. Connect to the positive terminal of a current-sense resistor in series with the source of the ground-referenced bottom MOSFET.", 11 EP (power) "Signal Ground."